# Altium schematic symbol library MAX5062.SchLib: 1 symbol
Pins are listed as number, name and electrical type; pins without a type are passive.

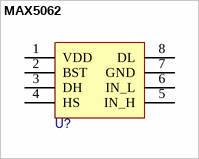
[diagram p0: symbol MAX5062]

## MAX5062
designator U?
pins: 1 VDD, 2 BST, 3 DH, 4 HS, 5 IN_H, 6 IN_L, 7 GND, 8 DL